# Altium footprint library PPcbLib.PcbLib: 7 footprints
Each footprint in its own frame and in the unit in brackets; x right, y up, seen from the top. Pads: shape width x height; smd on the part's side, far side on the other; paste and mask are expansions set on the pad; w line width, h text height; cw(c..) or ccw(c..) is an arc to the next point about the centre after c.
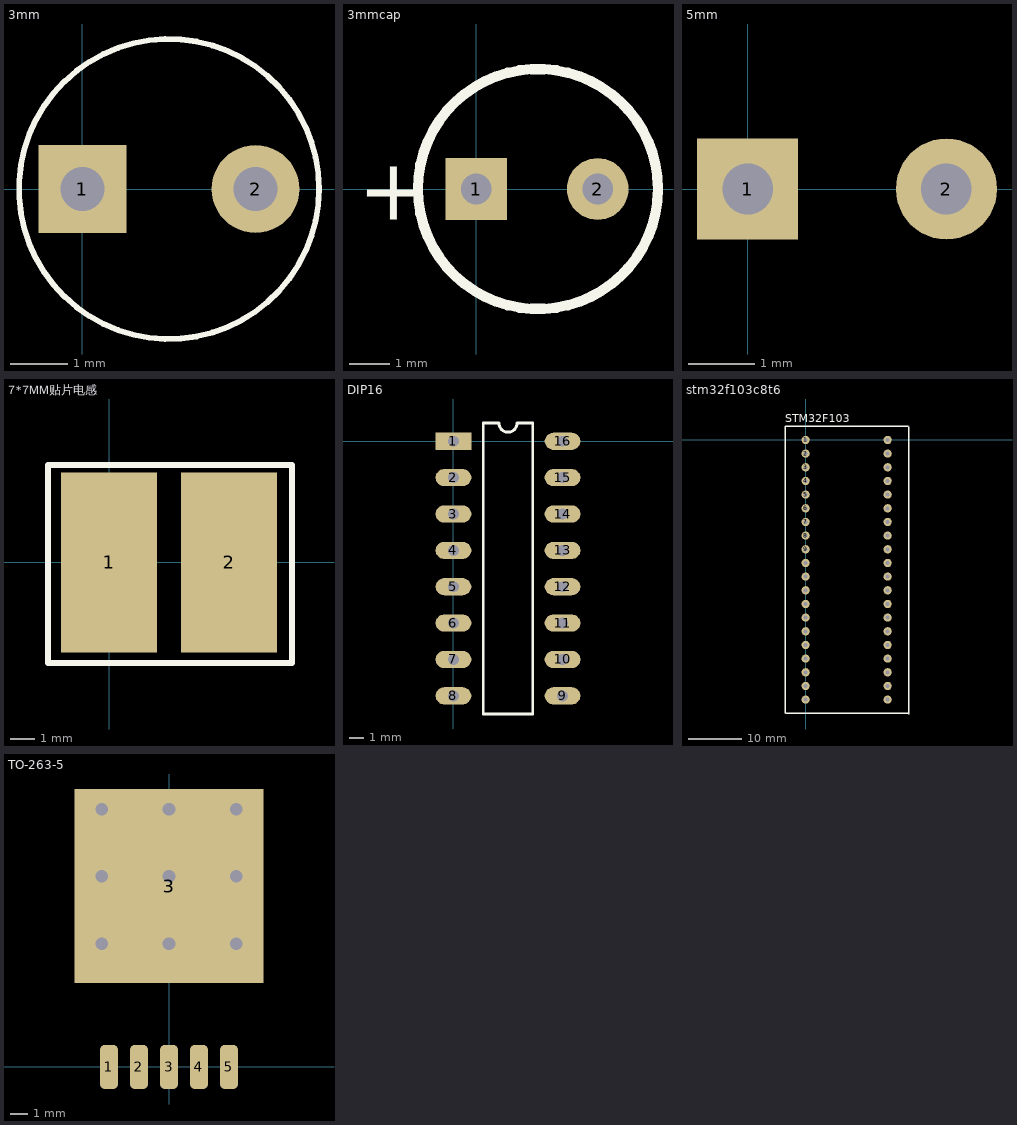
[diagram p0: the footprints below, top view; thin cyan lines are the x and y axes]

## 3mm [mil]
height 78.74
pads (2):
  rect 60x60 hole 30: 1(0,0)
  round 60 hole 30: 2(118.11,0)
Top Overlay:
  circle w3.94: c59.06,0 r102.36

## 3mmcap [mil]
pads (2):
  rect 60x60 hole 30: 1(0,0)
  round 60 hole 30: 2(118.11,0)
Top Overlay:
  circle w10: c60,0 r116.73
  text "+" at -115,-30 h60

## 5mm [mil]
pads (2):
  rect 60x60 hole 30: 1(0,0)
  round 60 hole 30: 2(118.11,0)

## 7*7MM贴片电感 [mm]
pads (2):
  rect 4x7.5 smd: 1(0,0) 2(5,0)
Top Overlay:
  lines w0.254: -2.54,-4.191 -2.54,-3.937 -2.54,4.064 7.62,4.064 7.62,-4.191 -2.54,-4.191

## DIP16 [mm]
pads (16):
  rect 2.5x1.2 hole 0.762: 1(0,0)
  oval 2.5x1.2 hole 0.762: 2(0,-2.54) 3(0,-5.08) 4(0,-7.62) 5(0,-10.16) 6(0,-12.7) 7(0,-15.24) 8(0,-17.78) 9(7.62,-17.78) 10(7.62,-15.24) 11(7.62,-12.7) 12(7.62,-10.16) 13(7.62,-7.62) 14(7.62,-5.08) 15(7.62,-2.54) 16(7.62,0)
Top Overlay:
  lines w0.2: 2.085,-19.05 5.535,-19.05 5.535,1.27 4.445,1.27 cw(c3.81,1.27) 3.175,1.27 2.085,1.27 2.085,-19.05

## stm32f103c8t6 [mil]
pads (40):
  round 60 hole 30: 1(0,0) 2(0,-100) 3(0,-200) 4(0,-300) 5(0,-400) 6(0,-500) 7(0,-600) 8(0,-700) 9(0,-800) 10(0,-900) 11(0,-1000) 12(0,-1100) 13(0,-1200) 14(0,-1300) 15(0,-1400) 16(0,-1500) 17(0,-1600) 18(0,-1700) 19(0,-1800) 20(0,-1900) 21(600,-1900) 22(600,-1800) 23(600,-1700) 24(600,-1600) 25(600,-1500) 26(600,-1400) 27(600,-1300) 28(600,-1200) 29(600,-1100) 30(600,-1000) 31(600,-900) 32(600,-800) 33(600,-700) 34(600,-600) 35(600,-500) 36(600,-400) 37(600,-300) 38(600,-200) 39(600,-100) 40(600,0)
Top Overlay:
  lines w10: -150,-2000 -150,100 750,100 ; -145,-2000 755,-2000 ; 755,-2005 755,95
  text "STM32F103" at -150,130 h60

## TO-263-5 [mm]
pads (6):
  rrect50% 1x2.5 smd: 1(-3.4,0) 2(-1.7,0) 3(0,0) 4(1.7,0) 5(3.4,0)
  rect 10.7x11 smd: 3(0,10.25)
via 0,10.795 diameter 1.27 hole 0.711
via -3.81,10.795 diameter 1.27 hole 0.711
via -3.81,6.985 diameter 1.27 hole 0.711
via 0,6.985 diameter 1.27 hole 0.711
via 3.81,6.985 diameter 1.27 hole 0.711
via 3.81,10.795 diameter 1.27 hole 0.711
via 3.81,14.605 diameter 1.27 hole 0.711
via 0,14.605 diameter 1.27 hole 0.711
via -3.81,14.605 diameter 1.27 hole 0.711